# Altium footprint library IC.PcbLib: 67 footprints (part 3 of 5)
Each footprint in its own frame and in the unit in brackets; x right, y up, seen from the top. Pads: shape width x height; smd on the part's side, far side on the other; paste and mask are expansions set on the pad; w line width, h text height; cw(c..) or ccw(c..) is an arc to the next point about the centre after c.
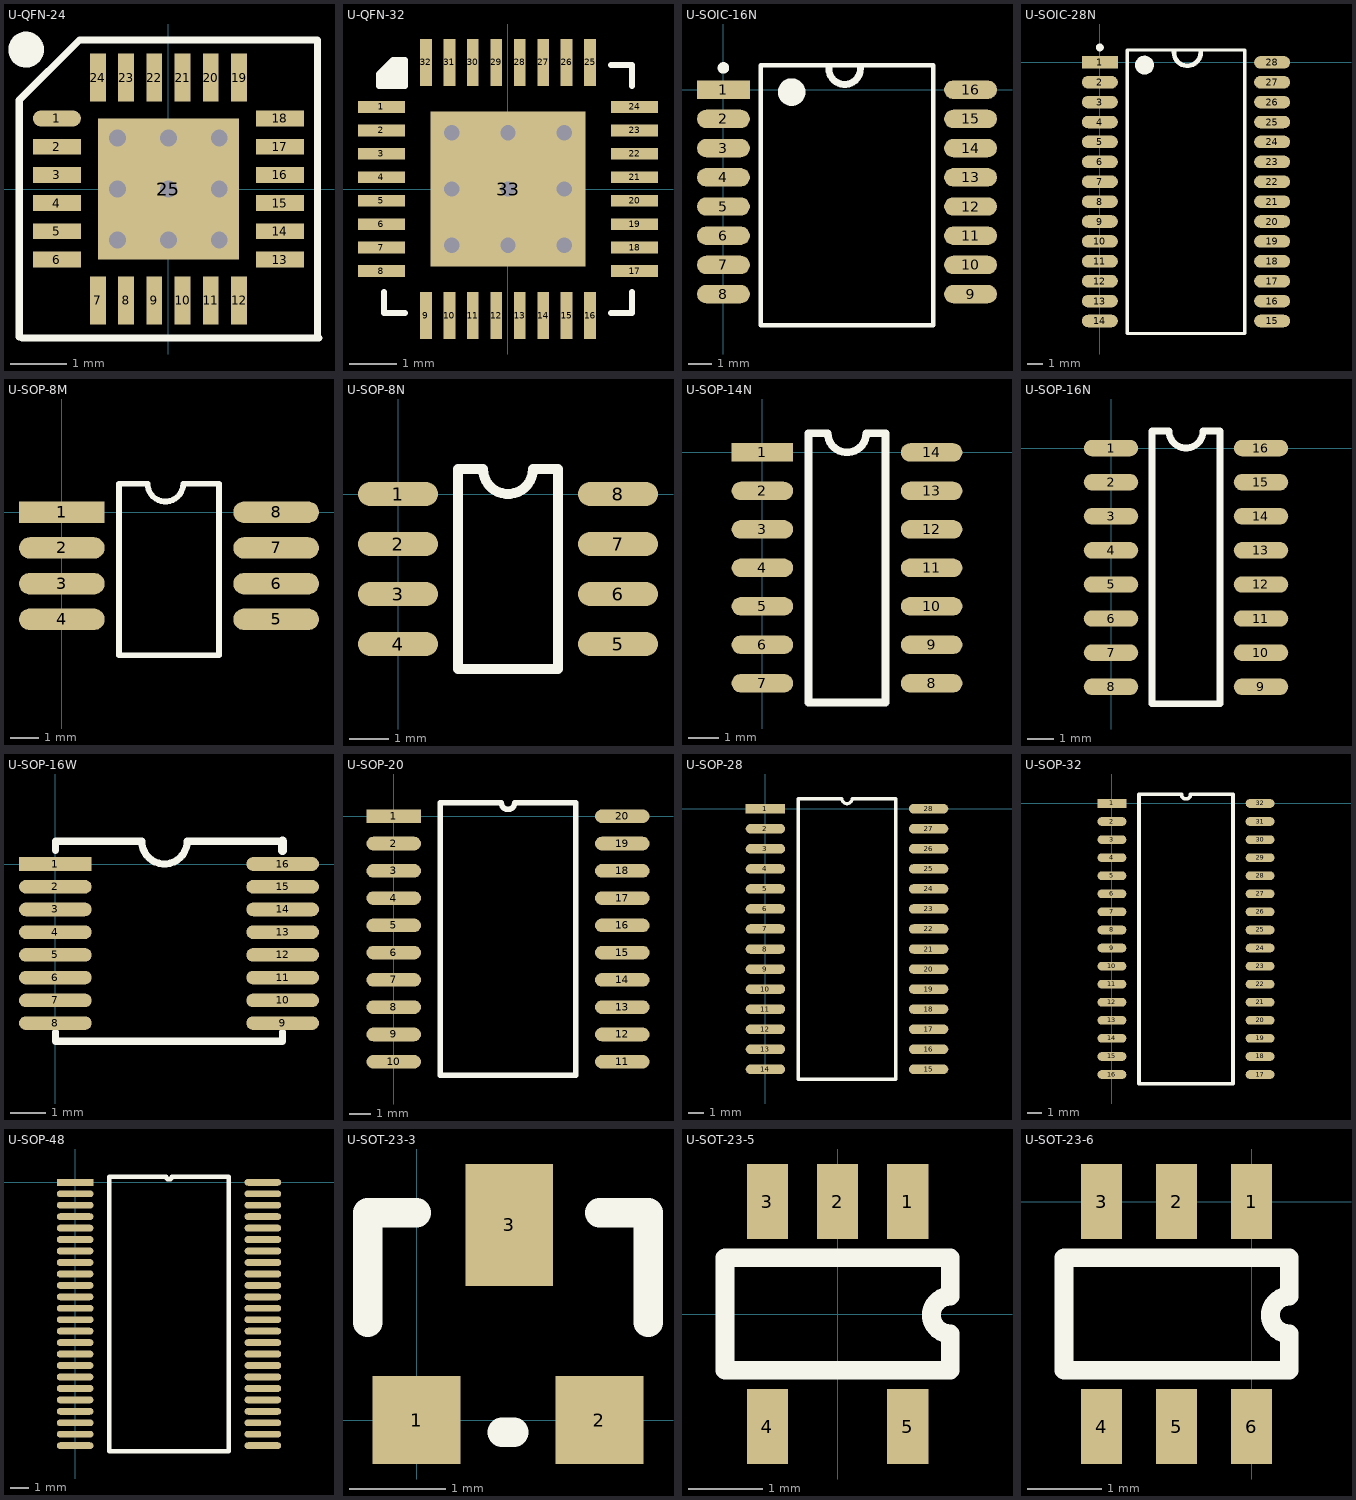
[diagram p2: the footprints below, top view; thin cyan lines are the x and y axes]

## U-QFN-24 [mm]
pads (25):
  oval 0.85x0.28 smd: 1(-1.975,1.25)
  rect 0.85x0.28 smd: 2(-1.975,0.75) 3(-1.975,0.25) 4(-1.975,-0.25) 5(-1.975,-0.75) 6(-1.975,-1.25) 13(1.975,-1.25) 14(1.975,-0.75) 15(1.975,-0.25) 16(1.975,0.25) 17(1.975,0.75) 18(1.975,1.25)
  rect 0.28x0.85 smd: 7(-1.25,-1.975) 8(-0.75,-1.975) 9(-0.25,-1.975) 10(0.25,-1.975) 11(0.75,-1.975) 12(1.25,-1.975) 19(1.25,1.975) 20(0.75,1.975) 21(0.25,1.975) 22(-0.25,1.975) 23(-0.75,1.975) 24(-1.25,1.975)
  rect 2.5x2.5 smd: 25(0,0)
via -0.9,0.9 diameter 0.3 hole 0.3
via 0,0.9 diameter 0.3 hole 0.3
via 0.9,0.9 diameter 0.3 hole 0.3
via -0.9,0 diameter 0.3 hole 0.3
via 0,0 diameter 0.3 hole 0.3
via 0.9,0 diameter 0.3 hole 0.3
via -0.9,-0.9 diameter 0.3 hole 0.3
via 0,-0.9 diameter 0.3 hole 0.3
via 0.9,-0.9 diameter 0.3 hole 0.3
Top Overlay:
  circle w0.381: c-2.52,2.469 r0.127
  lines w0.127: -2.642,-2.616 -2.642,1.575 -1.575,2.642 2.642,2.642 2.642,-2.616 ; -2.591,-2.642 2.667,-2.642
3D body: height 1, standoff 0, extent -1.975,-1.976 1.987,1.987
3D body: height 0.1, standoff 0, extent -2.203,1.174 -1.695,1.326
3D body: height 0.1, standoff 0, extent -2.203,0.666 -1.695,0.818
3D body: height 0.1, standoff 0, extent -2.203,0.183 -1.695,0.336
3D body: height 0.1, standoff 0, extent -2.203,-0.325 -1.695,-0.172
3D body: height 0.1, standoff 0, extent -2.203,-0.833 -1.695,-0.68
3D body: height 0.1, standoff 0, extent -2.203,-1.315 -1.695,-1.163
3D body: height 0.1, standoff 0, extent -1.34,-2.204 -1.188,-1.696
3D body: height 0.1, standoff 0, extent -0.832,-2.204 -0.68,-1.696
3D body: height 0.1, standoff 0, extent -0.324,-2.204 -0.172,-1.696
3D body: height 0.1, standoff 0, extent 0.184,-2.204 0.336,-1.696
3D body: height 0.1, standoff 0, extent 0.667,-2.204 0.819,-1.696
3D body: height 0.1, standoff 0, extent 1.175,-2.204 1.327,-1.696
3D body: height 0.1, standoff 0, extent 1.708,-1.315 2.216,-1.163
3D body: height 0.1, standoff 0, extent 1.708,-0.833 2.216,-0.68
3D body: height 0.1, standoff 0, extent 1.708,-0.325 2.216,-0.172
3D body: height 0.1, standoff 0, extent 1.708,0.183 2.216,0.336
3D body: height 0.1, standoff 0, extent 1.708,0.666 2.216,0.818
3D body: height 0.1, standoff 0, extent 1.708,1.174 2.216,1.326
3D body: height 0.1, standoff 0, extent -1.34,1.682 -1.188,2.19
3D body: height 0.1, standoff 0, extent -0.832,1.682 -0.68,2.19
3D body: height 0.1, standoff 0, extent -0.324,1.682 -0.172,2.19
3D body: height 0.1, standoff 0, extent 0.184,1.682 0.336,2.19
3D body: height 0.1, standoff 0, extent 0.667,1.682 0.819,2.19
3D body: height 0.1, standoff 0, extent 1.175,1.682 1.327,2.19

## U-QFN-32 [mm]
pads (33):
  rect 1x0.25 smd: 1(-2.7,1.75) 2(-2.7,1.25) 3(-2.7,0.75) 4(-2.7,0.25) 5(-2.7,-0.25) 6(-2.7,-0.75) 7(-2.7,-1.25) 8(-2.7,-1.75) 17(2.7,-1.75) 18(2.7,-1.25) 19(2.7,-0.75) 20(2.7,-0.25) 21(2.7,0.25) 22(2.7,0.75) 23(2.7,1.25) 24(2.7,1.75)
  rect 0.25x1 smd: 9(-1.75,-2.7) 10(-1.25,-2.7) 11(-0.75,-2.7) 12(-0.25,-2.7) 13(0.25,-2.7) 14(0.75,-2.7) 15(1.25,-2.7) 16(1.75,-2.7) 25(1.75,2.7) 26(1.25,2.7) 27(0.75,2.7) 28(0.25,2.7) 29(-0.25,2.7) 30(-0.75,2.7) 31(-1.25,2.7) 32(-1.75,2.7)
  rect 3.3x3.3 smd: 33(0,0)
via -1.2,1.2 diameter 0.66 hole 0.33
via 0,1.2 diameter 0.66 hole 0.33
via 1.2,1.2 diameter 0.66 hole 0.33
via -1.2,0 diameter 0.66 hole 0.33
via 0,0 diameter 0.66 hole 0.33
via 1.2,0 diameter 0.66 hole 0.33
via -1.2,-1.2 diameter 0.66 hole 0.33
via 0,-1.2 diameter 0.66 hole 0.33
via 1.2,-1.2 diameter 0.66 hole 0.33
Top Overlay:
  lines w0.127: -2.65,-2.2 -2.65,-2.65 -2.2,-2.65 ; -2.642,2.235 -2.642,2.5 ; -2.591,2.21 -2.591,2.5 ; -2.5,2.2 -2.5,2.705 -2.455,2.75 ; -2.413,2.2 -2.413,2.708 ; -2.311,2.21 -2.311,2.717 ; 2.2,-2.65 2.65,-2.65 2.65,-2.2 ; 2.2,2.65 2.65,2.65 2.65,2.2 ; -2.75,2.455 -2.75,2.2 -2.2,2.2 -2.2,2.75 -2.455,2.75 ; -2.75,2.455 -2.75,2.455 ; -2.75,2.455 -2.455,2.75
3D body: height 0.9, standoff 0.02, extent -2.5,-2.5 2.5,2.5

## U-SOIC-16N [mm]
height 2.65
pads (16):
  rect 2.3x0.8 smd: 1(0,0)
  oval 2.3x0.8 smd: 2(0,-1.27) 3(0,-2.54) 4(0,-3.81) 5(0,-5.08) 6(0,-6.35) 7(0,-7.62) 8(0,-8.89) 9(10.75,-8.89) 10(10.75,-7.62) 11(10.75,-6.35) 12(10.75,-5.08) 13(10.75,-3.81) 14(10.75,-2.54) 15(10.75,-1.27) 16(10.75,0)
Top Overlay:
  circle w0.25: c0,0.95 r0.125
  circle w0.6: c2.967,-0.102 r0.3
  lines w0.2: 1.625,-10.236 1.625,1.067 9.125,1.067 9.125,-10.236 1.625,-10.236
  lines w0.3: 4.588,0.914 ccw(c5.273,0.914) 5.959,0.914
3D body: height 2.65, standoff 0.1, extent 1.625,-9.695 9.125,0.805

## U-SOIC-28N [mm]
height 2.65
pads (28):
  rect 2.3x0.8 smd: 1(0,0)
  oval 2.3x0.8 smd: 2(0,-1.27) 3(0,-2.54) 4(0,-3.81) 5(0,-5.08) 6(0,-6.35) 7(0,-7.62) 8(0,-8.89) 9(0,-10.16) 10(0,-11.43) 11(0,-12.7) 12(0,-13.97) 13(0,-15.24) 14(0,-16.51) 15(11,-16.51) 16(11,-15.24) 17(11,-13.97) 18(11,-12.7) 19(11,-11.43) 20(11,-10.16) 21(11,-8.89) 22(11,-7.62) 23(11,-6.35) 24(11,-5.08) 25(11,-3.81) 26(11,-2.54) 27(11,-1.27) 28(11,0)
Top Overlay:
  circle w0.6: c2.85,-0.178 r0.3
  circle w0.25: c0,0.95 r0.125
  lines w0.2: 1.75,-17.305 9.25,-17.305 9.25,0.795 1.75,0.795 1.75,-17.305
  lines w0.3: 4.729,0.635 ccw(c5.585,0.635) 6.44,0.635
3D body: height 2.65, standoff 0.1, extent 1.75,-17.005 9.25,0.495

## U-SOP-8M [mil]
pads (8):
  rect 120x30 smd: 1(0,0)
  oval 120x30 smd: 2(0,-50) 3(0,-100) 4(0,-150) 5(300,-150) 6(300,-100) 7(300,-50) 8(300,0)
Top Overlay:
  lines w7.87: 80,-200 220,-200 220,40 170,40 cw(c145,40) 120,40 80,40 80,-200
3D body: height 59.06, standoff 3.94, extent 80,-200 220,40
3D body: height 10, standoff 0, extent -11,-13 84,13
3D body: height 10, standoff 0, extent -11,-63 84,-37
3D body: height 10, standoff 0, extent -11,-113 84,-87
3D body: height 10, standoff 0, extent -11,-162 84,-136
3D body: height 10, standoff 0, extent 216,-163 311,-137
3D body: height 10, standoff 0, extent 215,-113 310,-87
3D body: height 10, standoff 0, extent 215,-62 310,-36
3D body: height 10, standoff 0, extent 215,-12 310,14

## U-SOP-8N [mil]
pads (8):
  oval 80x24 smd: 1(0,0) 2(0,-50) 3(0,-100) 4(0,-150) 5(220,-150) 6(220,-100) 7(220,-50) 8(220,0)
Top Overlay:
  lines w10: 60,-175 160,-175 160,25 135,25 cw(c110,25) 85,25 60,25 60,-175
3D body: height 10, standoff 0, extent 157,-8.5 227,10.5
3D body: height 10, standoff 0, extent 157,-58.5 227,-39.5
3D body: height 10, standoff 0, extent 157,-109.5 227,-90.5
3D body: height 10, standoff 0, extent 157,-159.5 227,-140.5
3D body: height 10, standoff 0, extent -8,-159.5 62,-140.5
3D body: height 10, standoff 0, extent -8,-108.5 62,-89.5
3D body: height 10, standoff 0, extent -8,-58.5 62,-39.5
3D body: height 10, standoff 0, extent -8,-9 62,10
3D body: height 59.06, standoff 3.94, extent 60,-175 160,25

## U-SOP-14N [mil]
pads (14):
  rect 80x24 smd: 1(0,0)
  oval 80x24 smd: 2(0,-50) 3(0,-100) 4(0,-150) 5(0,-200) 6(0,-250) 7(0,-300) 8(220,-300) 9(220,-250) 10(220,-200) 11(220,-150) 12(220,-100) 13(220,-50) 14(220,0)
Top Overlay:
  lines w10: 60,-325 60,25 85,25 ccw(c110,25) 135,25 160,25 160,-325 60,-325
3D body: height 10, standoff 0, extent 155,-9.5 225,9.5
3D body: height 10, standoff 0, extent 155,-59.5 225,-40.5
3D body: height 10, standoff 0, extent 155,-109.5 225,-90.5
3D body: height 10, standoff 0, extent 155,-159.5 225,-140.5
3D body: height 10, standoff 0, extent 155,-209.5 225,-190.5
3D body: height 10, standoff 0, extent 155,-258.5 225,-239.5
3D body: height 10, standoff 0, extent 155,-309.5 225,-290.5
3D body: height 10, standoff 0, extent -5,-309.5 65,-290.5
3D body: height 10, standoff 0, extent -5,-258.5 65,-239.5
3D body: height 10, standoff 0, extent -5,-209.5 65,-190.5
3D body: height 10, standoff 0, extent -5,-159.5 65,-140.5
3D body: height 10, standoff 0, extent -5,-109.5 65,-90.5
3D body: height 10, standoff 0, extent -5,-59.5 65,-40.5
3D body: height 10, standoff 0, extent -5,-9 65,10
3D body: height 59.06, standoff 3.94, extent 60,-325 160,25

## U-SOP-16N [mil]
pads (16):
  oval 80x24 smd: 1(0,0) 2(0,-50) 3(0,-100) 4(0,-150) 5(0,-200) 6(0,-250) 7(0,-300) 8(0,-350) 9(220,-350) 10(220,-300) 11(220,-250) 12(220,-200) 13(220,-150) 14(220,-100) 15(220,-50) 16(220,0)
Top Overlay:
  lines w10: 60,-375 60,25 85,25 ccw(c110,25) 135,25 160,25 160,-375 60,-375
3D body: height 59.06, standoff 3.94, extent 60,-375 160,25
3D body: height 10, standoff 0, extent -5,-9.5 65,9.5
3D body: height 10, standoff 0, extent -5,-59.5 65,-40.5
3D body: height 10, standoff 0, extent -5,-108.5 65,-89.5
3D body: height 10, standoff 0, extent -5,-159.5 65,-140.5
3D body: height 10, standoff 0, extent -5,-209.5 65,-190.5
3D body: height 10, standoff 0, extent -5,-259.5 65,-240.5
3D body: height 10, standoff 0, extent -5,-309.5 65,-290.5
3D body: height 10, standoff 0, extent -5,-359.5 65,-340.5
3D body: height 10, standoff 0, extent 155,-359.5 225,-340.5
3D body: height 10, standoff 0, extent 155,-309.5 225,-290.5
3D body: height 10, standoff 0, extent 155,-259.5 225,-240.5
3D body: height 10, standoff 0, extent 155,-209.5 225,-190.5
3D body: height 10, standoff 0, extent 155,-159.5 225,-140.5
3D body: height 10, standoff 0, extent 155,-109.5 225,-90.5
3D body: height 10, standoff 0, extent 155,-59.5 225,-40.5
3D body: height 10, standoff 0, extent 155,-9.5 225,9.5

## U-SOP-16W [mil]
pads (16):
  rect 80x15 smd: 1(0,0)
  oval 80x15 smd: 2(0,-25) 3(0,-50) 4(0,-75) 5(0,-100) 6(0,-125) 7(0,-150) 8(0,-175) 9(250,-175) 10(250,-150) 11(250,-125) 12(250,-100) 13(250,-75) 14(250,-50) 15(250,-25) 16(250,0)
Top Overlay:
  lines w7.87: 0,-185 0,-195 250,-195 250,-185 ; 0,15 0,25 95,25 ccw(c120,25) 145,25 250,25
  lines w10: 250,15 250,25
3D body: height 10, standoff 0, extent 215,-180.5 279,-169.5
3D body: height 10, standoff 0, extent 215,-155 279,-144
3D body: height 10, standoff 0, extent 215,-130.5 279,-119.5
3D body: height 10, standoff 0, extent 215,-105.5 279,-94.5
3D body: height 10, standoff 0, extent 215,-80.5 279,-69.5
3D body: height 10, standoff 0, extent 215,-55.5 279,-44.5
3D body: height 10, standoff 0, extent 215,-30.5 279,-19.5
3D body: height 10, standoff 0, extent 215,-5.5 279,5.5
3D body: height 10, standoff 0, extent -26,-180.5 38,-169.5
3D body: height 10, standoff 0, extent -26,-155.5 38,-144.5
3D body: height 10, standoff 0, extent -26,-130.5 38,-119.5
3D body: height 10, standoff 0, extent -26,-104.5 38,-93.5
3D body: height 10, standoff 0, extent -26,-80.5 38,-69.5
3D body: height 10, standoff 0, extent -26,-55.5 38,-44.5
3D body: height 10, standoff 0, extent -26,-30 38,-19
3D body: height 10, standoff 0, extent -26,-5 38,6
3D body: height 59.06, standoff 3.94, extent 25,-195 223,25

## U-SOP-20 [mil]
pads (20):
  rect 100x25 smd: 1(0,0)
  oval 100x25 smd: 2(0,-50) 3(0,-100) 4(0,-150) 5(0,-200) 6(0,-250) 7(0,-300) 8(0,-350) 9(0,-400) 10(0,-450) 11(419,-450) 12(419,-400) 13(419,-350) 14(419,-300) 15(419,-250) 16(419,-200) 17(419,-150) 18(419,-100) 19(419,-50) 20(419,0)
Top Overlay:
  lines w10: 85,-475 334,-475 334,25 222,25 cw(c209.5,25) 197,25 85,25 85,-475
3D body: height 59.06, standoff 3.94, extent 86,-474 329,21

## U-SOP-28 [mm]
pads (28):
  rect 2.5x0.6 smd: 1(0,0)
  oval 2.5x0.6 smd: 2(0,-1.27) 3(0,-2.54) 4(0,-3.81) 5(0,-5.08) 6(0,-6.35) 7(0,-7.62) 8(0,-8.89) 9(0,-10.16) 10(0,-11.43) 11(0,-12.7) 12(0,-13.97) 13(0,-15.24) 14(0,-16.51) 15(10.34,-16.51) 16(10.34,-15.24) 17(10.34,-13.97) 18(10.34,-12.7) 19(10.34,-11.43) 20(10.34,-10.16) 21(10.34,-8.89) 22(10.34,-7.62) 23(10.34,-6.35) 24(10.34,-5.08) 25(10.34,-3.81) 26(10.34,-2.54) 27(10.34,-1.27) 28(10.34,0)
Top Overlay:
  lines w0.2: 2.085,-17.145 8.255,-17.145 8.255,0.635 5.487,0.635 cw(c5.17,0.635) 4.852,0.635 2.085,0.635 2.085,-17.145
3D body: height 1.5, standoff 0.1, extent 2.184,-17.043 8.153,0.533

## U-SOP-32 [mil]
pads (32):
  rect 80x24 smd: 1(0,0)
  oval 80x24 smd: 2(0,-50) 3(0,-100) 4(0,-150) 5(0,-200) 6(0,-250) 7(0,-300) 8(0,-350) 9(0,-400) 10(0,-450) 11(0,-500) 12(0,-550) 13(0,-600) 14(0,-650) 15(0,-700) 16(0,-750) 17(410,-750) 18(410,-700) 19(410,-650) 20(410,-600) 21(410,-550) 22(410,-500) 23(410,-450) 24(410,-400) 25(410,-350) 26(410,-300) 27(410,-250) 28(410,-200) 29(410,-150) 30(410,-100) 31(410,-50) 32(410,0)
Top Overlay:
  lines w10: 75,-775 75,25 192.5,25 ccw(c205,25) 217.5,25 335,25 335,-775 75,-775
3D body: height 10, standoff 0, extent 330,-9 422,10
3D body: height 10, standoff 0, extent 330,-59.5 422,-40.5
3D body: height 10, standoff 0, extent 330,-109 422,-90
3D body: height 10, standoff 0, extent 330,-159 422,-140
3D body: height 10, standoff 0, extent 330,-209 422,-190
3D body: height 10, standoff 0, extent 330,-259 422,-240
3D body: height 10, standoff 0, extent 330,-309 422,-290
3D body: height 10, standoff 0, extent 330,-359 422,-340
3D body: height 10, standoff 0, extent 330,-409 422,-390
3D body: height 10, standoff 0, extent 330,-459 422,-440
3D body: height 10, standoff 0, extent 330,-509 422,-490
3D body: height 10, standoff 0, extent 330,-559 422,-540
3D body: height 10, standoff 0, extent 330,-609 422,-590
3D body: height 10, standoff 0, extent 330,-659 422,-640
3D body: height 10, standoff 0, extent 330,-709 422,-690
3D body: height 10, standoff 0, extent 330,-758.5 422,-739.5
3D body: height 10, standoff 0, extent -12,-759 80,-740
3D body: height 10, standoff 0, extent -12,-709 80,-690
3D body: height 10, standoff 0, extent -12,-659 80,-640
3D body: height 10, standoff 0, extent -12,-609 80,-590
3D body: height 10, standoff 0, extent -12,-559 80,-540
3D body: height 10, standoff 0, extent -11,-509 81,-490
3D body: height 10, standoff 0, extent -12,-459 80,-440
3D body: height 10, standoff 0, extent -12,-409 80,-390
3D body: height 10, standoff 0, extent -12,-359 80,-340
3D body: height 10, standoff 0, extent -12,-309 80,-290
3D body: height 10, standoff 0, extent -12,-259 80,-240
3D body: height 10, standoff 0, extent -12,-209 80,-190
3D body: height 10, standoff 0, extent -12,-159 80,-140
3D body: height 10, standoff 0, extent -12,-109 80,-90
3D body: height 10, standoff 0, extent -12,-9 80,10
3D body: height 10, standoff 0, extent -12,-59 80,-40
3D body: height 59.06, standoff 3.94, extent 75,-775 335,25

## U-SOP-48 [mil]
pads (48):
  rect 80x15 smd: 1(0,0)
  oval 80x15 smd: 2(0,-25) 3(0,-50) 4(0,-75) 5(0,-100) 6(0,-125) 7(0,-150) 8(0,-175) 9(0,-200) 10(0,-225) 11(0,-250) 12(0,-275) 13(0,-300) 14(0,-325) 15(0,-350) 16(0,-375) 17(0,-400) 18(0,-425) 19(0,-450) 20(0,-475) 21(0,-500) 22(0,-525) 23(0,-550) 24(0,-575) 25(410,-575) 26(410,-550) 27(410,-525) 28(410,-500) 29(410,-475) 30(410,-450) 31(410,-425) 32(410,-400) 33(410,-375) 34(410,-350) 35(410,-325) 36(410,-300) 37(410,-275) 38(410,-250) 39(410,-225) 40(410,-200) 41(410,-175) 42(410,-150) 43(410,-125) 44(410,-100) 45(410,-75) 46(410,-50) 47(410,-25) 48(410,0)
Top Overlay:
  lines w10: 75,-587.5 75,12.5 198.75,12.5 ccw(c205,12.5) 211.25,12.5 335,12.5 335,-587.5 75,-587.5

## U-SOT-23-3 [mil]
pads (3):
  rect 36x36 smd: 1(0,0) 2(75,0)
  rect 36x50 smd: 3(38,80)
Top Overlay:
  lines w12: -20,40 -20,85 0,85 ; 35,-5 40,-5 ; 75,85 95,85 95,40
3D body: height 10, standoff 0, extent 57.5,-10 91.5,15
3D body: height 10, standoff 0, extent -17.5,-10 16.5,15
3D body: height 10, standoff 0, extent 20.5,65 54.5,90
3D body: height 50, standoff 3, extent -20.5,12.5 94.5,67.5

## U-SOT-23-5 [mil]
pads (5):
  rect 22x40 smd: 1(37.4,60) 2(0,60) 3(-37.4,60) 4(-37.4,-60) 5(37.4,-60)
Top Overlay:
  lines w10: 60,-13 60,-30 -60,-30 -60,30 60,30 60,9.44 ccw(c60,-0.56) 60,-10.56
3D body: height 10, standoff 0, extent -47,27 -28,69
3D body: height 59.06, standoff 3.94, extent -60,-30 60,30
3D body: height 10, standoff 0, extent -10,27 9,69
3D body: height 10, standoff 0, extent 28,27 47,69
3D body: height 10, standoff 0, extent -47,-68 -28,-26
3D body: height 10, standoff 0, extent 28,-68 47,-26

## U-SOT-23-6 [mil]
pads (6):
  rect 22x40 smd: 1(0,0) 2(-40,0) 3(-80,0) 4(-80,-120) 5(-40,-120) 6(0,-120)
Top Overlay:
  lines w10: 20,-73 20,-90 -100,-90 -100,-30 20,-30 20,-50.56 ccw(c20,-60.56) 20,-70.56
3D body: height 10, standoff 0, extent -49.5,-127 -30.5,-85
3D body: height 10, standoff 0, extent -9.5,-127 9.5,-85
3D body: height 10, standoff 0, extent -89.5,-127 -70.5,-85
3D body: height 10, standoff 0, extent -9.5,-32 9.5,10
3D body: height 10, standoff 0, extent -49.5,-32 -30.5,10
3D body: height 59.06, standoff 3.94, extent -101,-89 19,-29
3D body: height 10, standoff 0, extent -89.5,-32 -70.5,10